# Altium schematic symbol library STM32L451REY6TR.SchLib: 1 symbol
Pins are listed as number, name and electrical type; pins without a type are passive.

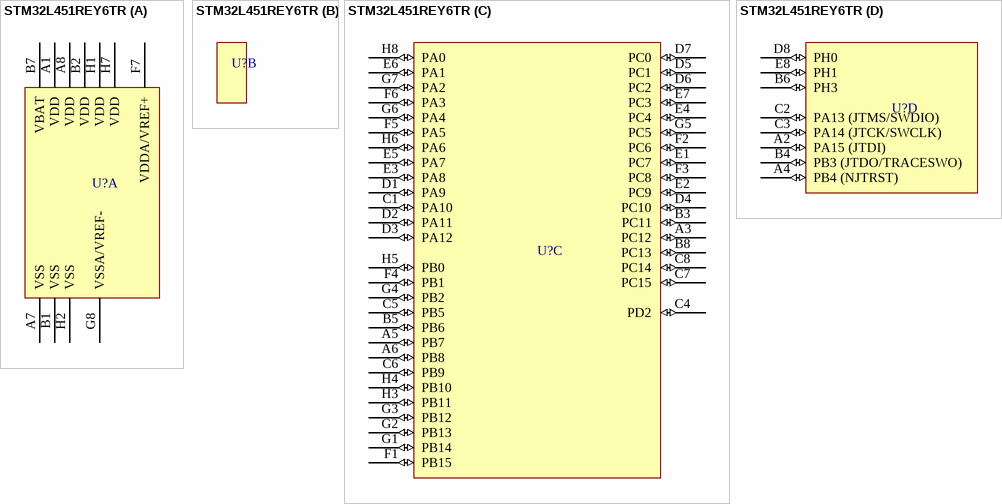
[diagram p0: symbol STM32L451REY6TR]

## STM32L451REY6TR
designator U?  (value not drawn)
Ultra-low-power with FPU Arm Cortex-M4 MCU 80 MHz with 512 kbytes of Flash memory, DFSDM
part A pins: A1 VDD (power), A7 VSS (power), A8 VDD (power), B1 VSS (power), B2 VDD (power), B7 VBAT (power), F7 VDDA/VREF+ (power), G8 VSSA/VREF- (power), H1 VDD (power), H2 VSS (power), H7 VDD (power)
part C pins: A3 PC12 (io), A5 PB7 (io), A6 PB8 (io), B3 PC11 (io), B5 PB6 (io), B8 PC13 (io), C1 PA10 (io), C4 PD2 (io), C5 PB5 (io), C6 PB9 (io), C7 PC15 (io), C8 PC14 (io), D1 PA9 (io), D2 PA11 (io), D3 PA12 (io), D4 PC10 (io), D5 PC1 (io), D6 PC2 (io), D7 PC0 (io), E1 PC7 (io), E2 PC9 (io), E3 PA8 (io), E4 PC4 (io), E5 PA7 (io), E6 PA1 (io), E7 PC3 (io), F1 PB15 (io), F2 PC6 (io), F3 PC8 (io), F4 PB1 (io), F5 PA5 (io), F6 PA3 (io), G1 PB14 (io), G2 PB13 (io), G3 PB12 (io), G4 PB2 (io), G5 PC5 (io), G6 PA4 (io), G7 PA2 (io), H3 PB11 (io), H4 PB10 (io), H5 PB0 (io), H6 PA6 (io), H8 PA0 (io)
part D pins: A2 PA15 (JTDI) (io), A4 PB4 (NJTRST) (io), B4 PB3 (JTDO/TRACESWO) (io), B6 PH3 (io), C2 PA13 (JTMS/SWDIO) (io), C3 PA14 (JTCK/SWCLK) (io), D8 PH0 (io), E8 PH1 (io)